# Altium footprint library GS AQ.PcbLib: 29 footprints (part 2 of 2)
Each footprint in its own frame and in the unit in brackets; x right, y up, seen from the top. Pads: shape width x height; smd on the part's side, far side on the other; paste and mask are expansions set on the pad; w line width, h text height; cw(c..) or ccw(c..) is an arc to the next point about the centre after c.
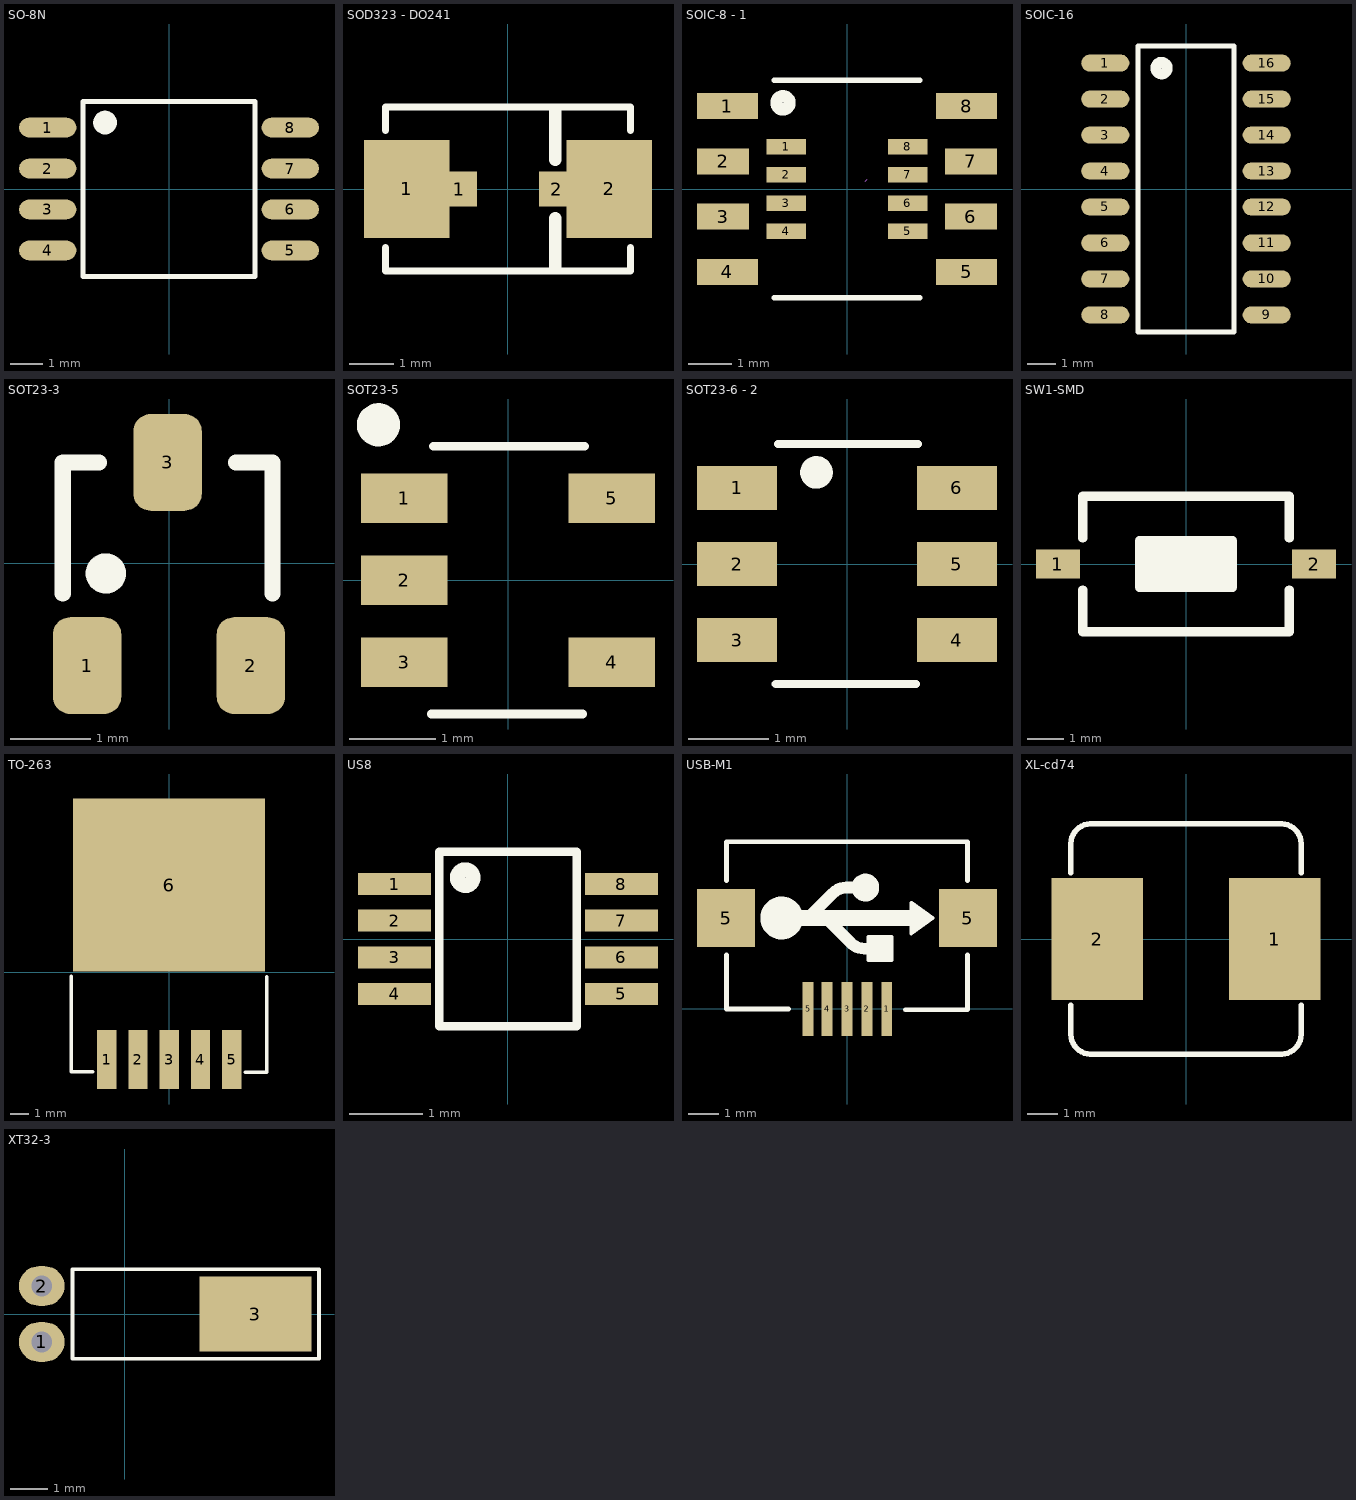
[diagram p1: the footprints below, top view; thin cyan lines are the x and y axes]

## SO-8N [mil] "SOP, 8-Leads, Body 5.3x5.3mm, Pitch 1.27mm, IPC Medium Density"
height 79.92
pads (8):
  oval 70x24 smd: 1(-148,75) 2(-148,25) 3(-148,-25) 4(-148,-75) 5(148,-75) 6(148,-25) 7(148,25) 8(148,75)
Top Overlay:
  lines w6: -105,-107 105,-107 105,107 -105,107 -105,-107
  lines w15: -71,81 cw(c-78,81) -71,81.09
3D body: height 76.77, standoff 0, extent -155.51,-104.34 155.51,104.32

## SOD323 - DO241 [mm] "Chip Capacitor; Body 3.2 x 1.6 mm (LxW typ)"
height 1.5
pads (4):
  rect 1.93x2.21 smd: 1(-2.286,0) 2(2.286,0)
  rect 0.8x0.8 smd: 1(-1.1,0) 2(1.1,0)
Top Overlay:
  lines w0.152: -2.768,-1.321 -2.768,-1.854 2.769,-1.854 2.769,-1.321 ; -2.768,1.321 -2.768,1.854 2.769,1.854 2.769,1.321
  lines w0.279: 1.067,-1.778 1.067,-0.66 ; 1.067,0.66 1.067,1.778
3D body: height 2.27, standoff -0.03, extent -2.7,-1.8 2.7,1.8

## SOIC-8 - 1 [mm] "SOIC, 8-Leads, Body 5,0x4,0mm (max), Pitch 1,27mm, IPC Medium Density"
height 1.75
pads (16):
  rect 1.4x0.6 smd: 1(-2.75,1.905) 4(-2.75,-1.905) 5(2.75,-1.905) 8(2.75,1.905)
  rect 0.9x0.356 smd: 1(-1.397,0.975) 2(-1.397,0.325) 3(-1.397,-0.325) 4(-1.397,-0.975) 5(1.397,-0.975) 6(1.397,-0.325) 7(1.397,0.325) 8(1.397,0.975)
  rect 1.2x0.6 smd: 2(-2.85,0.635) 3(-2.85,-0.635) 6(2.85,-0.635) 7(2.85,0.635)
Top Overlay:
  circle w0.279: c-1.473,1.981 r0.152
  lines w0.127: -1.676,-2.5 1.676,-2.5 ; -1.676,2.5 1.676,2.5
Mechanical 15:
  lines w0.003: 0.419,0.174 0.47,0.224
3D body: height 1.6, standoff 0, extent -3.021,-2.51 3.021,2.51
3D body: height 1.2, standoff 0, extent -1.4,-1.47 1.4,1.47

## SOIC-16 [mm]
height 12.75
pads (16):
  oval 1.7x0.6 smd: 1(-2.85,4.445) 2(-2.85,3.175) 3(-2.85,1.905) 4(-2.85,0.635) 5(-2.85,-0.635) 6(-2.85,-1.905) 7(-2.85,-3.175) 8(-2.85,-4.445) 9(2.85,-4.445) 10(2.85,-3.175) 11(2.85,-1.905) 12(2.85,-0.635) 13(2.85,0.635) 14(2.85,1.905) 15(2.85,3.175) 16(2.85,4.445)
Top Overlay:
  circle w0.381: c-0.864,4.267 r0.203
  lines w0.178: -1.7,-5.055 -1.7,5.055 1.7,5.055 1.7,-5.055 -1.7,-5.055
3D body: height 1.7, standoff 0, extent -3.099,-4.953 3.099,4.953

## SOT23-3 [mm]
height 1
pads (3):
  rrect50% 0.85x1.2 smd: 1(-1.016,-1.27) 2(1.016,-1.27) 3(-0.018,1.25)
Top Overlay:
  circle w0.25: c-0.783,-0.127 r0.125
  lines w0.2: -1.318,-0.375 -1.318,1.25 -0.868,1.25 ; 0.832,1.25 1.282,1.25 1.282,-0.375
3D body: height 1.3, standoff 0, extent -1.5,-1.5 1.5,1.5

## SOT23-5 [mm] "SOT23, 5-Leads, Body 3.0x3.0mm (max), Pitch 0.95mm, IPC Medium Density"
height 1.45
pads (5):
  rect 1x0.57 smd: 1(-1.2,0.95) 2(-1.2,0) 3(-1.2,-0.95) 4(1.2,-0.95) 5(1.2,0.95)
Top Overlay:
  circle w0.25: c-1.5,1.8 r0.125
  lines w0.1: -0.886,-1.549 0.864,-1.549 ; -0.864,1.549 0.886,1.549
3D body: height 1.06, standoff -0.04, extent -1.25,-1.5 1.25,1.5

## SOT23-6 - 2 [mm] "SOT23, 5-Leads, Body 3.0x3.0mm (max), Pitch 0.95mm, IPC Medium Density"
height 1.45
pads (6):
  rect 1x0.55 smd: 1(-1.372,0.95) 2(-1.372,0) 3(-1.372,-0.95) 4(1.372,-0.95) 5(1.372,0) 6(1.372,0.95)
Top Overlay:
  circle w0.203: c-0.381,1.143 r0.102
  lines w0.1: -0.889,-1.499 0.861,-1.499 ; -0.864,1.499 0.886,1.499
3D body: height 1.45, standoff 0, extent -1.4,-1.45 1.4,1.45

## SW1-SMD [mm]
height 12.75
pads (2):
  rect 1.2x0.8 smd: 1(-3.5,0) 2(3.5,0)
Top Overlay:
  rectangle: -1.27,-0.635 1.27,0.635
  lines w0.254: -2.819,-0.711 -2.819,-1.854 2.819,-1.854 2.819,-0.711 ; -2.819,0.711 -2.819,1.854 2.819,1.854 2.819,0.711 ; -1.27,-0.635 -1.27,0.635 1.27,0.635 1.27,-0.635 -1.27,-0.635
3D body: height 2.5, standoff 0, extent -3.05,-1.85 3.05,1.85

## TO-263 [mm]
pads (6):
  rect 1.05x3.2 smd: 1(-3.4,-4.75) 2(-1.7,-4.75) 3(0,-4.75) 4(1.7,-4.75) 5(3.4,-4.75)
  rect 10.45x9.4 smd: 6(0,4.75)
Top Overlay:
  lines w0.2: -5.33,-0.229 -5.33,-5.41 -4.162,-5.41 ; 4.144,-5.436 5.312,-5.436 5.312,-0.254
3D body: height 4.85, standoff 0.02, extent -5.205,-5.329 5.205,9.04

## US8 [mm] "Small Outline; 8 Leads; Body Width 3.9 mm; Pitch 1.27 mm"
height 1.75
pads (8):
  rect 1x0.3 smd: 1(-1.55,0.75) 2(-1.55,0.25) 3(-1.55,-0.25) 4(-1.55,-0.75) 5(1.55,-0.75) 6(1.55,-0.25) 7(1.55,0.25) 8(1.55,0.75)
Top Overlay:
  circle w0.203: c-0.584,0.838 r0.108
  lines w0.114: -0.94,-1.194 0.94,-1.194 0.94,1.194 -0.94,1.194 -0.94,-1.194
3D body: height 0.9, standoff 0, extent -1.6,-1.2 1.6,1.2

## USB-M1 [mil]
height 153.54
pads (7):
  rect 14x70 smd: 1(51.18,0) 2(25.59,0) 3(0,0) 4(-25.59,0) 5(-50,0)
  rect 74.8x74.8 smd: 5(-155.51,116.84) 5(155.51,116.84)
Top Overlay:
  circle w20: c23.56,156.21 r7.87
  circle w35: c-84.07,117 r10
  region: 57.03,62.87 27.5,62.87 27.5,92.39 57.03,92.39
  region: 110.18,117 82.62,97.31 82.62,136.69
  lines w5: 27.5,62.87 57.03,62.87 57.03,92.39 27.5,92.39 27.5,62.87 ; 82.62,97.31 82.62,136.69 110.18,117 82.62,97.31
  lines w6: -155,69.8 -155,0 -75,0 ; -155,164.84 -155,215 155,215 155,164.84 ; 75,-1 155,-1 155,69.8
  lines w15: -52.85,114.46 -18.48,148.83 cw(c-0.65,131) -0.65,156.21 22.5,156.21 ; -24.7,114.54 4.83,85.01 ccw(c22.66,102.84) 22.66,77.63 42.5,77.63
  lines w20: -82.5,117 92.5,117
3D body: height 106.7, standoff -9.04, extent -156.58,4.51 157.59,218.29

## XL-cd74 [mm]
height 12.75
pads (2):
  rect 3x4 smd: 1(2.9,0) 2(-2.9,0)
Top Overlay:
  lines w0.178: -3.759,-2.159 -3.759,-3.124 ccw(c-3.124,-3.124) -3.124,-3.759 3.124,-3.759 ccw(c3.124,-3.124) 3.759,-3.124 3.759,-2.159 ; -3.759,2.159 -3.759,3.124 cw(c-3.124,3.124) -3.124,3.759 3.124,3.759 cw(c3.124,3.124) 3.759,3.124 3.759,2.159
3D body: height 4.5, standoff 0, extent -3.65,-3.65 3.65,3.65

## XT32-3 [mil] "Crystal for 32,768kHz, 2pin"
height 150
pads (3):
  oval 48x42 hole 22: 1(-87.5,-29.53) 2(-87.5,29.53)
  rect 118.11x78.74 smd: 3(137.8,0)
Top Overlay:
  lines w4: -55.12,46 -55.12,-47.24 205,-47.24 205,47.24 -55.12,47.24
3D body: height 82.68, standoff -74.8, extent -92.88,-39.37 188.22,39.37